# Altium schematic symbol library SN74HCS74Q.SchLib: 1 symbol
Pins are listed as number, name and electrical type; pins without a type are passive.

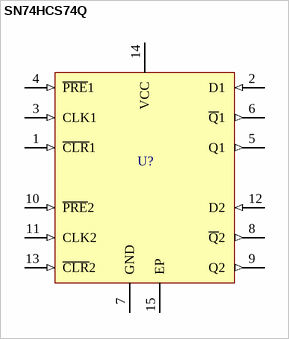
[diagram p0: symbol SN74HCS74Q]

## SN74HCS74Q
designator U?
Automotive Schmitt-Trigger Input Dual D-Type Positive-Edge-Triggered Flip-Flops With Clear and Preset
pins: 1 ~{CLR}1 (in), 2 D1 (in), 3 CLK1 (in), 4 ~{PRE}1 (in), 5 Q1 (out), 6 ~{Q}1 (out), 7 GND (power), 8 ~{Q}2 (out), 9 Q2 (out), 10 ~{PRE}2 (in), 11 CLK2 (in), 12 D2 (in), 13 ~{CLR}2 (in), 14 VCC (power), 15 EP (power)